# EAGLE library part CONNECTOR-10 (library eagle-library-engr-245-s22)
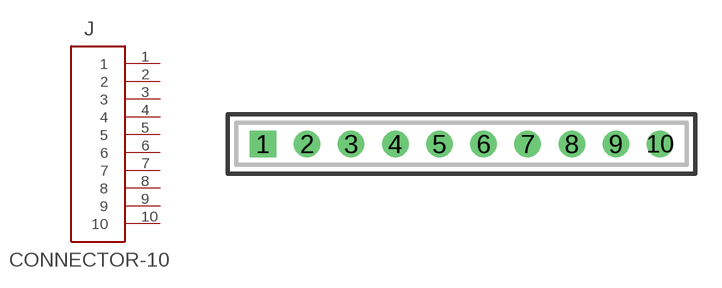
[diagram p16: symbol with the pads of ESQ-110-XX-XX-S; footprint ESQ-110-XX-XX-S]

Designator prefix J

## CONNECTOR-10  [ESQ-110-XX-XX-S]
1  1
2  2
3  3
4  4
5  5
6  6
7  7
8  8
9  9
10  10

## Footprint ESQ-110-XX-XX-S (pad centres in mm)
drill 1.016 pad 1.524 square: 1 0,0
drill 1.016 pad 1.524: 2 2.54,0; 3 5.08,0; 4 7.62,0; 5 10.16,0; 6 12.7,0; 7 15.24,0; 8 17.78,0; 9 20.32,0; 10 22.86,0